# Altium integrated library TI Data Converters Digital to Analog Converter.IntLib: 1533 symbols (part 82 of 99)
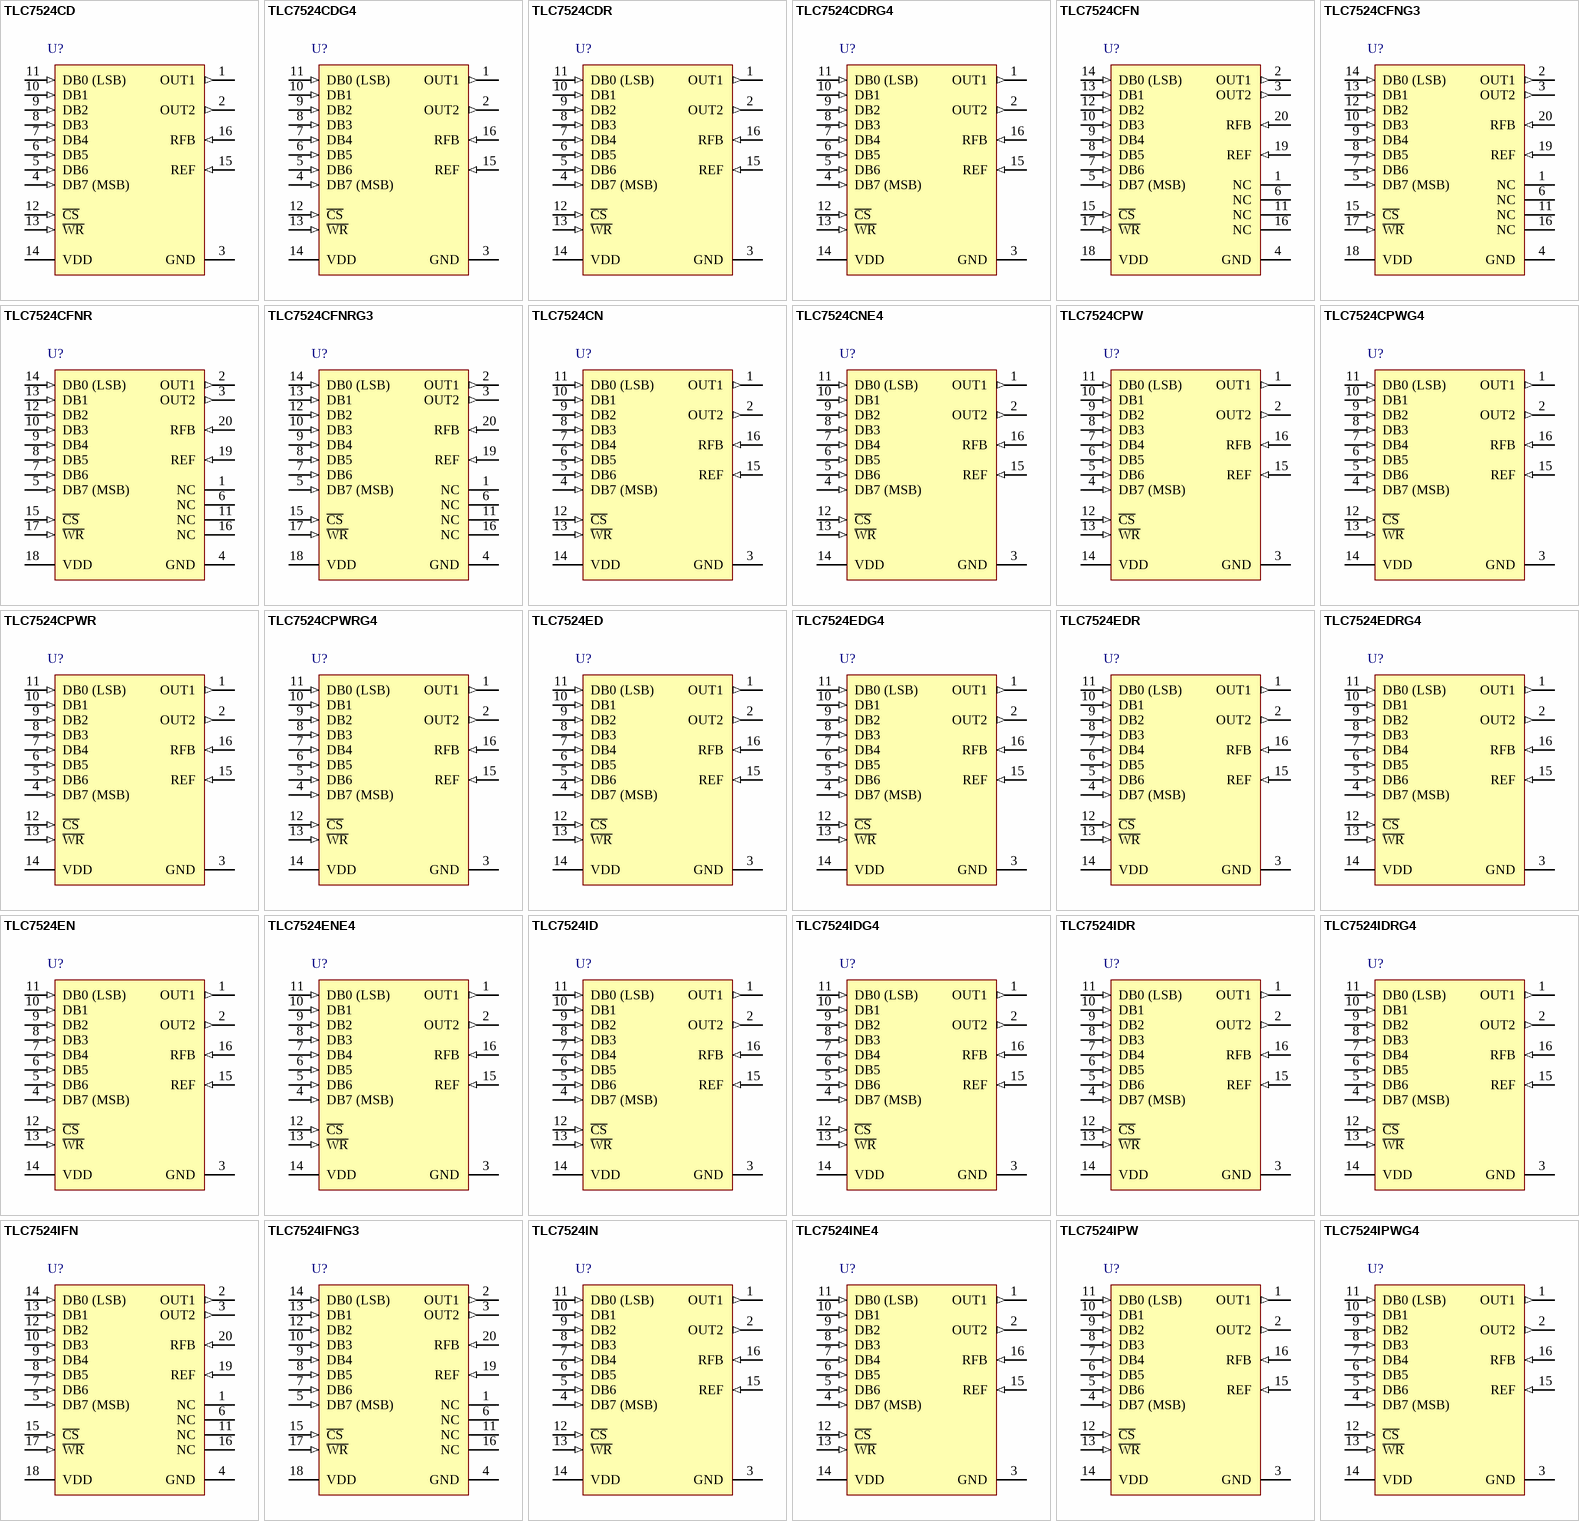
[diagram p154: symbols TLC7524CD to TLC7524IPWG4]

## TLC7524IPWG4
designator U?
8-Bit, 0.1 us MDAC, Parallel Input, Fast Control Signalling for DSP, Easy Micro Interface, -25 to 85 degC, 16-pin SOP (PW16), Green (RoHS & no Sb/Br); Manufacturer: Texas Instruments; PartNumber: TLC7524IPWG4; DAC Channels: 1; DNL(Max)(+/-LSB): 0.5; Resolution(Bits): 8; Settling Time(us): 0.1; SubFamily: Precision DAC (=<10MSPS); DatasheetVersion: SLAS061D; PackageVersion: 4040064-4/G, 02/2011; PackageReference: PW16; PackageDescription: 16-Pin Plastic Small Outline, Body 5 x 4.4 mm, Pitch 0.65 mm; Supplier 1: Digi-Key; Supplier Part Number 1: TLC7524IPWG4-ND; Supplier 2: Mouser; Supplier Part Number 2: 595-TLC7524IPWG4; Eco-Plan: Green (RoHS & no Sb/Br); INL(Max)(+/-LSB): 0.5; Interface: Parallel; Mounting Technology: Surface Mount; Code_JEDEC: MO-153; ComponentLink1Description: Manufacturer URL; ComponentLink1URL: http://www.ti.com/; ComponentLink2Description: Datasheet; ComponentLink2URL: http://www.ti.com/general/docs/lit/getliterature.tsp?genericPartNumber=TLC7524&fileType=pdf; ComponentLink3Description: Package Specification; ComponentLink3URL: http://www.ti.com/lit/ml/mpds361/mpds361.pdf
footprint TI-PW16_N (SOP, 16-Leads, Body 5x4.4mm, Pitch 0.65mm, IPC Medium Density)
footprint TI-PW16_L (SOP, 16-Leads, Body 5x4.4mm, Pitch 0.65mm, IPC High Density)
footprint TI-PW16_M (SOP, 16-Leads, Body 5x4.4mm, Pitch 0.65mm, IPC Low Density)
pins: 1 OUT1 (out), 2 OUT2 (out), 3 GND (power), 4 DB7 (MSB) (in), 5 DB6 (in), 6 DB5 (in), 7 DB4 (in), 8 DB3 (in), 9 DB2 (in), 10 DB1 (in), 11 DB0 (LSB) (in), 12 ~{CS} (in), 13 ~{WR} (in), 14 VDD (power), 15 REF (in), 16 RFB (in)

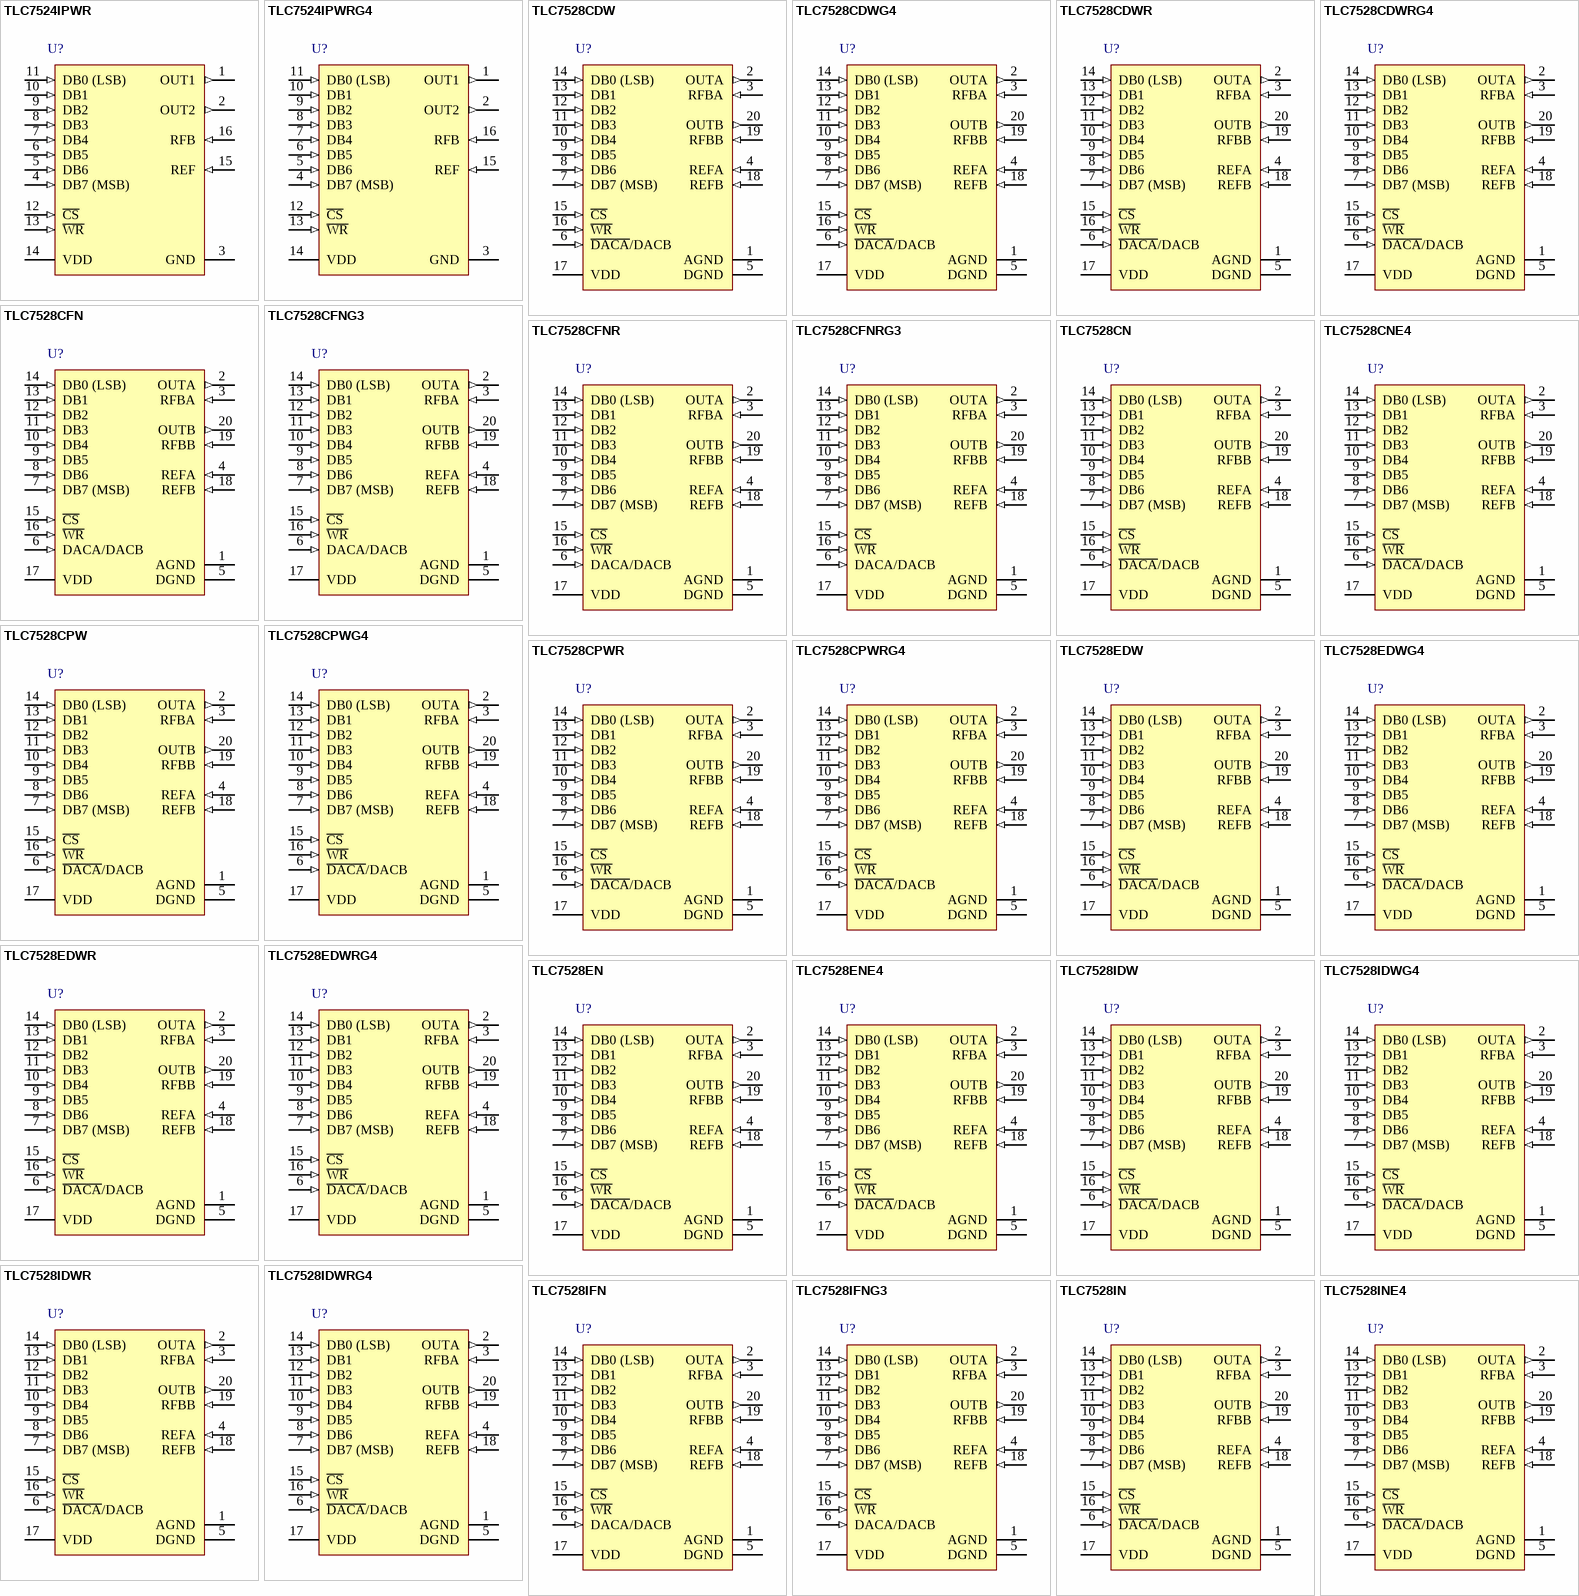
[diagram p61: symbols TLC7524IPWR to TLC7528INE4]

## TLC7524IPWR
designator U?
8-Bit, 0.1 us MDAC, Parallel Input, Fast Control Signalling for DSP, Easy Micro Interface, -25 to 85 degC, 16-pin SOP (PW16), Green (RoHS & no Sb/Br); Manufacturer: Texas Instruments; PartNumber: TLC7524IPWR; DAC Channels: 1; DNL(Max)(+/-LSB): 0.5; Resolution(Bits): 8; Settling Time(us): 0.1; SubFamily: Precision DAC (=<10MSPS); DatasheetVersion: SLAS061D; PackageVersion: 4040064-4/G, 02/2011; PackageReference: PW16; PackageDescription: 16-Pin Plastic Small Outline, Body 5 x 4.4 mm, Pitch 0.65 mm; Supplier 1: Digi-Key; Supplier Part Number 1: TLC7524IPWR-ND; Supplier 2: Mouser; Supplier Part Number 2: 595-TLC7524IPWR; Eco-Plan: Green (RoHS & no Sb/Br); INL(Max)(+/-LSB): 0.5; Interface: Parallel; Mounting Technology: Surface Mount; Code_JEDEC: MO-153; ComponentLink1Description: Manufacturer URL; ComponentLink1URL: http://www.ti.com/; ComponentLink2Description: Datasheet; ComponentLink2URL: http://www.ti.com/general/docs/lit/getliterature.tsp?genericPartNumber=TLC7524&fileType=pdf; ComponentLink3Description: Package Specification; ComponentLink3URL: http://www.ti.com/lit/ml/mpds361/mpds361.pdf
footprint TI-PW16_N (SOP, 16-Leads, Body 5x4.4mm, Pitch 0.65mm, IPC Medium Density)
footprint TI-PW16_L (SOP, 16-Leads, Body 5x4.4mm, Pitch 0.65mm, IPC High Density)
footprint TI-PW16_M (SOP, 16-Leads, Body 5x4.4mm, Pitch 0.65mm, IPC Low Density)
pins: 1 OUT1 (out), 2 OUT2 (out), 3 GND (power), 4 DB7 (MSB) (in), 5 DB6 (in), 6 DB5 (in), 7 DB4 (in), 8 DB3 (in), 9 DB2 (in), 10 DB1 (in), 11 DB0 (LSB) (in), 12 ~{CS} (in), 13 ~{WR} (in), 14 VDD (power), 15 REF (in), 16 RFB (in)

## TLC7524IPWRG4
designator U?
8-Bit, 0.1 us MDAC, Parallel Input, Fast Control Signalling for DSP, Easy Micro Interface, -25 to 85 degC, 16-pin SOP (PW16), Green (RoHS & no Sb/Br); Manufacturer: Texas Instruments; PartNumber: TLC7524IPWRG4; DAC Channels: 1; DNL(Max)(+/-LSB): 0.5; Resolution(Bits): 8; Settling Time(us): 0.1; SubFamily: Precision DAC (=<10MSPS); DatasheetVersion: SLAS061D; PackageVersion: 4040064-4/G, 02/2011; PackageReference: PW16; PackageDescription: 16-Pin Plastic Small Outline, Body 5 x 4.4 mm, Pitch 0.65 mm; Supplier 1: Digi-Key; Supplier Part Number 1: TLC7524IPWRG4-ND; Supplier 2: Mouser; Supplier Part Number 2: 595-TLC7524IPWRG4; Eco-Plan: Green (RoHS & no Sb/Br); INL(Max)(+/-LSB): 0.5; Interface: Parallel; Mounting Technology: Surface Mount; Code_JEDEC: MO-153; ComponentLink1Description: Manufacturer URL; ComponentLink1URL: http://www.ti.com/; ComponentLink2Description: Datasheet; ComponentLink2URL: http://www.ti.com/general/docs/lit/getliterature.tsp?genericPartNumber=TLC7524&fileType=pdf; ComponentLink3Description: Package Specification; ComponentLink3URL: http://www.ti.com/lit/ml/mpds361/mpds361.pdf
footprint TI-PW16_N (SOP, 16-Leads, Body 5x4.4mm, Pitch 0.65mm, IPC Medium Density)
footprint TI-PW16_L (SOP, 16-Leads, Body 5x4.4mm, Pitch 0.65mm, IPC High Density)
footprint TI-PW16_M (SOP, 16-Leads, Body 5x4.4mm, Pitch 0.65mm, IPC Low Density)
pins: 1 OUT1 (out), 2 OUT2 (out), 3 GND (power), 4 DB7 (MSB) (in), 5 DB6 (in), 6 DB5 (in), 7 DB4 (in), 8 DB3 (in), 9 DB2 (in), 10 DB1 (in), 11 DB0 (LSB) (in), 12 ~{CS} (in), 13 ~{WR} (in), 14 VDD (power), 15 REF (in), 16 RFB (in)

## TLC7528CDW
designator U?
8-Bit, 0.1 us Dual MDAC, Parallel Input, Fast Control Signalling for DSP, Easy Micro Interface, 0 to 70 degC, 20-pin SOIC (DW20), Green (RoHS & no Sb/Br); Manufacturer: Texas Instruments; PartNumber: TLC7528CDW; DAC Channels: 2; DNL(Max)(+/-LSB): 0.5; Resolution(Bits): 8; Settling Time(us): 0.1; SubFamily: Precision DAC (=<10MSPS); DatasheetVersion: SLAS062E; PackageVersion: 4040000-4/G, 01/2011; PackageReference: DW20; PackageDescription: 20-Pin Plastic Small Outline, Body 12.8 x 7.5 mm, Pitch 1.27 mm; Supplier 1: Digi-Key; Supplier Part Number 1: 296-1340-5-ND; Supplier 2: Newark; Supplier Part Number 2: 08F9152; Supplier 3: Mouser; Supplier Part Number 3: 595-TLC7528CDW; Eco-Plan: Green (RoHS & no Sb/Br); INL(Max)(+/-LSB): 0.5; Interface: Parallel; Mounting Technology: Surface Mount; Code_JEDEC: MO-013; ComponentLink1Description: Manufacturer URL; ComponentLink1URL: http://www.ti.com/; ComponentLink2Description: Datasheet; ComponentLink2URL: http://www.ti.com/general/docs/lit/getliterature.tsp?genericPartNumber=TLC7528&fileType=pdf; ComponentLink3Description: Package Specification; ComponentLink3URL: http://www.ti.com/lit/ml/mpds173a/mpds173a.pdf
footprint TI-DW20_N (SOIC, 20-Leads, Body 12.8x7.5mm, Pitch 1.27mm, IPC Medium Density)
footprint TI-DW20_L (SOIC, 20-Leads, Body 12.8x7.5mm, Pitch 1.27mm, IPC High Density)
footprint TI-DW20_M (SOIC, 20-Leads, Body 12.8x7.5mm, Pitch 1.27mm, IPC Low Density)
pins: 1 AGND (power), 2 OUTA (out), 3 RFBA (in), 4 REFA (in), 5 DGND (power), 6 ~{DACA}/DACB (in), 7 DB7 (MSB) (in), 8 DB6 (in), 9 DB5 (in), 10 DB4 (in), 11 DB3 (in), 12 DB2 (in), 13 DB1 (in), 14 DB0 (LSB) (in), 15 ~{CS} (in), 16 ~{WR} (in), 17 VDD (power), 18 REFB (in), 19 RFBB (in), 20 OUTB (out)

## TLC7528CDWG4
designator U?
8-Bit, 0.1 us Dual MDAC, Parallel Input, Fast Control Signalling for DSP, Easy Micro Interface, 0 to 70 degC, 20-pin SOIC (DW20), Green (RoHS & no Sb/Br); Manufacturer: Texas Instruments; PartNumber: TLC7528CDWG4; DAC Channels: 2; DNL(Max)(+/-LSB): 0.5; Resolution(Bits): 8; Settling Time(us): 0.1; SubFamily: Precision DAC (=<10MSPS); DatasheetVersion: SLAS062E; PackageVersion: 4040000-4/G, 01/2011; PackageReference: DW20; PackageDescription: 20-Pin Plastic Small Outline, Body 12.8 x 7.5 mm, Pitch 1.27 mm; Supplier 1: Digi-Key; Supplier Part Number 1: TLC7528CDWG4-ND; Supplier 2: Mouser; Supplier Part Number 2: 595-TLC7528CDWG4; Eco-Plan: Green (RoHS & no Sb/Br); INL(Max)(+/-LSB): 0.5; Interface: Parallel; Mounting Technology: Surface Mount; Code_JEDEC: MO-013; ComponentLink1Description: Manufacturer URL; ComponentLink1URL: http://www.ti.com/; ComponentLink2Description: Datasheet; ComponentLink2URL: http://www.ti.com/general/docs/lit/getliterature.tsp?genericPartNumber=TLC7528&fileType=pdf; ComponentLink3Description: Package Specification; ComponentLink3URL: http://www.ti.com/lit/ml/mpds173a/mpds173a.pdf
footprint TI-DW20_N (SOIC, 20-Leads, Body 12.8x7.5mm, Pitch 1.27mm, IPC Medium Density)
footprint TI-DW20_L (SOIC, 20-Leads, Body 12.8x7.5mm, Pitch 1.27mm, IPC High Density)
footprint TI-DW20_M (SOIC, 20-Leads, Body 12.8x7.5mm, Pitch 1.27mm, IPC Low Density)
pins: 1 AGND (power), 2 OUTA (out), 3 RFBA (in), 4 REFA (in), 5 DGND (power), 6 ~{DACA}/DACB (in), 7 DB7 (MSB) (in), 8 DB6 (in), 9 DB5 (in), 10 DB4 (in), 11 DB3 (in), 12 DB2 (in), 13 DB1 (in), 14 DB0 (LSB) (in), 15 ~{CS} (in), 16 ~{WR} (in), 17 VDD (power), 18 REFB (in), 19 RFBB (in), 20 OUTB (out)

## TLC7528CDWR
designator U?
8-Bit, 0.1 us Dual MDAC, Parallel Input, Fast Control Signalling for DSP, Easy Micro Interface, 0 to 70 degC, 20-pin SOIC (DW20), Green (RoHS & no Sb/Br); Manufacturer: Texas Instruments; PartNumber: TLC7528CDWR; DAC Channels: 2; DNL(Max)(+/-LSB): 0.5; Resolution(Bits): 8; Settling Time(us): 0.1; SubFamily: Precision DAC (=<10MSPS); DatasheetVersion: SLAS062E; PackageVersion: 4040000-4/G, 01/2011; PackageReference: DW20; PackageDescription: 20-Pin Plastic Small Outline, Body 12.8 x 7.5 mm, Pitch 1.27 mm; Supplier 1: Digi-Key; Supplier Part Number 1: 296-1340-2-ND; Supplier 2: Digi-Key; Supplier Part Number 2: 296-1340-1-ND; Supplier 3: Digi-Key; Supplier Part Number 3: 296-1340-6-ND; Supplier 4: Newark; Supplier Part Number 4: 76C7505; Supplier 5: Mouser; Supplier Part Number 5: 595-TLC7528CDWR; Eco-Plan: Green (RoHS & no Sb/Br); INL(Max)(+/-LSB): 0.5; Interface: Parallel; Mounting Technology: Surface Mount; Code_JEDEC: MO-013; ComponentLink1Description: Manufacturer URL; ComponentLink1URL: http://www.ti.com/; ComponentLink2Description: Datasheet; ComponentLink2URL: http://www.ti.com/general/docs/lit/getliterature.tsp?genericPartNumber=TLC7528&fileType=pdf; ComponentLink3Description: Package Specification; ComponentLink3URL: http://www.ti.com/lit/ml/mpds173a/mpds173a.pdf
footprint TI-DW20_N (SOIC, 20-Leads, Body 12.8x7.5mm, Pitch 1.27mm, IPC Medium Density)
footprint TI-DW20_L (SOIC, 20-Leads, Body 12.8x7.5mm, Pitch 1.27mm, IPC High Density)
footprint TI-DW20_M (SOIC, 20-Leads, Body 12.8x7.5mm, Pitch 1.27mm, IPC Low Density)
pins: 1 AGND (power), 2 OUTA (out), 3 RFBA (in), 4 REFA (in), 5 DGND (power), 6 ~{DACA}/DACB (in), 7 DB7 (MSB) (in), 8 DB6 (in), 9 DB5 (in), 10 DB4 (in), 11 DB3 (in), 12 DB2 (in), 13 DB1 (in), 14 DB0 (LSB) (in), 15 ~{CS} (in), 16 ~{WR} (in), 17 VDD (power), 18 REFB (in), 19 RFBB (in), 20 OUTB (out)

## TLC7528CDWRG4
designator U?
8-Bit, 0.1 us Dual MDAC, Parallel Input, Fast Control Signalling for DSP, Easy Micro Interface, 0 to 70 degC, 20-pin SOIC (DW20), Green (RoHS & no Sb/Br); Manufacturer: Texas Instruments; PartNumber: TLC7528CDWRG4; DAC Channels: 2; DNL(Max)(+/-LSB): 0.5; Resolution(Bits): 8; Settling Time(us): 0.1; SubFamily: Precision DAC (=<10MSPS); DatasheetVersion: SLAS062E; PackageVersion: 4040000-4/G, 01/2011; PackageReference: DW20; PackageDescription: 20-Pin Plastic Small Outline, Body 12.8 x 7.5 mm, Pitch 1.27 mm; Supplier 1: Digi-Key; Supplier Part Number 1: TLC7528CDWRG4-ND; Supplier 2: Mouser; Supplier Part Number 2: 595-TLC7528CDWRG4; Eco-Plan: Green (RoHS & no Sb/Br); INL(Max)(+/-LSB): 0.5; Interface: Parallel; Mounting Technology: Surface Mount; Code_JEDEC: MO-013; ComponentLink1Description: Manufacturer URL; ComponentLink1URL: http://www.ti.com/; ComponentLink2Description: Datasheet; ComponentLink2URL: http://www.ti.com/general/docs/lit/getliterature.tsp?genericPartNumber=TLC7528&fileType=pdf; ComponentLink3Description: Package Specification; ComponentLink3URL: http://www.ti.com/lit/ml/mpds173a/mpds173a.pdf
footprint TI-DW20_N (SOIC, 20-Leads, Body 12.8x7.5mm, Pitch 1.27mm, IPC Medium Density)
footprint TI-DW20_L (SOIC, 20-Leads, Body 12.8x7.5mm, Pitch 1.27mm, IPC High Density)
footprint TI-DW20_M (SOIC, 20-Leads, Body 12.8x7.5mm, Pitch 1.27mm, IPC Low Density)
pins: 1 AGND (power), 2 OUTA (out), 3 RFBA (in), 4 REFA (in), 5 DGND (power), 6 ~{DACA}/DACB (in), 7 DB7 (MSB) (in), 8 DB6 (in), 9 DB5 (in), 10 DB4 (in), 11 DB3 (in), 12 DB2 (in), 13 DB1 (in), 14 DB0 (LSB) (in), 15 ~{CS} (in), 16 ~{WR} (in), 17 VDD (power), 18 REFB (in), 19 RFBB (in), 20 OUTB (out)

## TLC7528CFN
designator U?
8-Bit, 0.1 us Dual MDAC, Parallel Input, Fast Control Signalling for DSP, Easy Micro Interface, 0 to 70 degC, 20-pin PLCC (FN20), Green (RoHS & no Sb/Br); Manufacturer: Texas Instruments; PartNumber: TLC7528CFN; DAC Channels: 2; DNL(Max)(+/-LSB): 0.5; Resolution(Bits): 8; Settling Time(us): 0.1; SubFamily: Precision DAC (=<10MSPS); DatasheetVersion: SLAS062E; PackageVersion: 4040005/B, 03/1995; PackageReference: FN20; PackageDescription: 20-Pin Plastic Chip Carrier, Body 8.965 x 8.965 mm, Pitch 1.27 mm; Supplier 1: Digi-Key; Supplier Part Number 1: 296-3024-5-ND; Supplier 2: Mouser; Supplier Part Number 2: 595-TLC7528CFN; Eco-Plan: Green (RoHS & no Sb/Br); INL(Max)(+/-LSB): 0.5; Interface: Parallel; Mounting Technology: Surface Mount; Code_JEDEC: MS-018; ComponentLink1Description: Manufacturer URL; ComponentLink1URL: http://www.ti.com/; ComponentLink2Description: Datasheet; ComponentLink2URL: http://www.ti.com/general/docs/lit/getliterature.tsp?genericPartNumber=TLC7528&fileType=pdf; ComponentLink3Description: Package Specification; ComponentLink3URL: http://www.ti.com/litv/pdf/mplc004a
footprint TI-FN20_N (PLCC, 20-Leads, Body 8.965x8.965mm, Pitch 1.27mm, IPC Medium Density)
footprint TI-FN20_L (PLCC, 20-Leads, Body 8.965x8.965mm, Pitch 1.27mm, IPC High Density)
footprint TI-FN20_M (PLCC, 20-Leads, Body 8.965x8.965mm, Pitch 1.27mm, IPC Low Density)
pins: 1 AGND (power), 2 OUTA (out), 3 RFBA (in), 4 REFA (in), 5 DGND (power), 6 DACA/DACB (in), 7 DB7 (MSB) (in), 8 DB6 (in), 9 DB5 (in), 10 DB4 (in), 11 DB3 (in), 12 DB2 (in), 13 DB1 (in), 14 DB0 (LSB) (in), 15 ~{CS} (in), 16 ~{WR} (in), 17 VDD (power), 18 REFB (in), 19 RFBB (in), 20 OUTB (out)

## TLC7528CFNG3
designator U?
8-Bit, 0.1 us Dual MDAC, Parallel Input, Fast Control Signalling for DSP, Easy Micro Interface, 0 to 70 degC, 20-pin PLCC (FN20), Green (RoHS & no Sb/Br); Manufacturer: Texas Instruments; PartNumber: TLC7528CFNG3; DAC Channels: 2; DNL(Max)(+/-LSB): 0.5; Resolution(Bits): 8; Settling Time(us): 0.1; SubFamily: Precision DAC (=<10MSPS); DatasheetVersion: SLAS062E; PackageVersion: 4040005/B, 03/1995; PackageReference: FN20; PackageDescription: 20-Pin Plastic Chip Carrier, Body 8.965 x 8.965 mm, Pitch 1.27 mm; Supplier 1: Digi-Key; Supplier Part Number 1: TLC7528CFNG3-ND; Supplier 2: Mouser; Supplier Part Number 2: 595-TLC7528CFNG3; Eco-Plan: Green (RoHS & no Sb/Br); INL(Max)(+/-LSB): 0.5; Interface: Parallel; Mounting Technology: Surface Mount; Code_JEDEC: MS-018; ComponentLink1Description: Manufacturer URL; ComponentLink1URL: http://www.ti.com/; ComponentLink2Description: Datasheet; ComponentLink2URL: http://www.ti.com/general/docs/lit/getliterature.tsp?genericPartNumber=TLC7528&fileType=pdf; ComponentLink3Description: Package Specification; ComponentLink3URL: http://www.ti.com/litv/pdf/mplc004a
footprint TI-FN20_N (PLCC, 20-Leads, Body 8.965x8.965mm, Pitch 1.27mm, IPC Medium Density)
footprint TI-FN20_L (PLCC, 20-Leads, Body 8.965x8.965mm, Pitch 1.27mm, IPC High Density)
footprint TI-FN20_M (PLCC, 20-Leads, Body 8.965x8.965mm, Pitch 1.27mm, IPC Low Density)
pins: 1 AGND (power), 2 OUTA (out), 3 RFBA (in), 4 REFA (in), 5 DGND (power), 6 DACA/DACB (in), 7 DB7 (MSB) (in), 8 DB6 (in), 9 DB5 (in), 10 DB4 (in), 11 DB3 (in), 12 DB2 (in), 13 DB1 (in), 14 DB0 (LSB) (in), 15 ~{CS} (in), 16 ~{WR} (in), 17 VDD (power), 18 REFB (in), 19 RFBB (in), 20 OUTB (out)

## TLC7528CFNR
designator U?
8-Bit, 0.1 us Dual MDAC, Parallel Input, Fast Control Signalling for DSP, Easy Micro Interface, 0 to 70 degC, 20-pin PLCC (FN20), Green (RoHS & no Sb/Br); Manufacturer: Texas Instruments; PartNumber: TLC7528CFNR; DAC Channels: 2; DNL(Max)(+/-LSB): 0.5; Resolution(Bits): 8; Settling Time(us): 0.1; SubFamily: Precision DAC (=<10MSPS); DatasheetVersion: SLAS062E; PackageVersion: 4040005/B, 03/1995; PackageReference: FN20; PackageDescription: 20-Pin Plastic Chip Carrier, Body 8.965 x 8.965 mm, Pitch 1.27 mm; Supplier 1: Digi-Key; Supplier Part Number 1: TLC7528CFNR-ND; Supplier 2: Mouser; Supplier Part Number 2: 595-TLC7528CFNR; Eco-Plan: Green (RoHS & no Sb/Br); INL(Max)(+/-LSB): 0.5; Interface: Parallel; Mounting Technology: Surface Mount; Code_JEDEC: MS-018; ComponentLink1Description: Manufacturer URL; ComponentLink1URL: http://www.ti.com/; ComponentLink2Description: Datasheet; ComponentLink2URL: http://www.ti.com/general/docs/lit/getliterature.tsp?genericPartNumber=TLC7528&fileType=pdf; ComponentLink3Description: Package Specification; ComponentLink3URL: http://www.ti.com/litv/pdf/mplc004a
footprint TI-FN20_N (PLCC, 20-Leads, Body 8.965x8.965mm, Pitch 1.27mm, IPC Medium Density)
footprint TI-FN20_L (PLCC, 20-Leads, Body 8.965x8.965mm, Pitch 1.27mm, IPC High Density)
footprint TI-FN20_M (PLCC, 20-Leads, Body 8.965x8.965mm, Pitch 1.27mm, IPC Low Density)
pins: 1 AGND (power), 2 OUTA (out), 3 RFBA (in), 4 REFA (in), 5 DGND (power), 6 DACA/DACB (in), 7 DB7 (MSB) (in), 8 DB6 (in), 9 DB5 (in), 10 DB4 (in), 11 DB3 (in), 12 DB2 (in), 13 DB1 (in), 14 DB0 (LSB) (in), 15 ~{CS} (in), 16 ~{WR} (in), 17 VDD (power), 18 REFB (in), 19 RFBB (in), 20 OUTB (out)

## TLC7528CFNRG3
designator U?
8-Bit, 0.1 us Dual MDAC, Parallel Input, Fast Control Signalling for DSP, Easy Micro Interface, 0 to 70 degC, 20-pin PLCC (FN20), Green (RoHS & no Sb/Br); Manufacturer: Texas Instruments; PartNumber: TLC7528CFNRG3; DAC Channels: 2; DNL(Max)(+/-LSB): 0.5; Resolution(Bits): 8; Settling Time(us): 0.1; SubFamily: Precision DAC (=<10MSPS); DatasheetVersion: SLAS062E; PackageVersion: 4040005/B, 03/1995; PackageReference: FN20; PackageDescription: 20-Pin Plastic Chip Carrier, Body 8.965 x 8.965 mm, Pitch 1.27 mm; Supplier 1: Digi-Key; Supplier Part Number 1: TLC7528CFNRG3-ND; Supplier 2: Mouser; Supplier Part Number 2: 595-TLC7528CFNRG3; Eco-Plan: Green (RoHS & no Sb/Br); INL(Max)(+/-LSB): 0.5; Interface: Parallel; Mounting Technology: Surface Mount; Code_JEDEC: MS-018; ComponentLink1Description: Manufacturer URL; ComponentLink1URL: http://www.ti.com/; ComponentLink2Description: Datasheet; ComponentLink2URL: http://www.ti.com/general/docs/lit/getliterature.tsp?genericPartNumber=TLC7528&fileType=pdf; ComponentLink3Description: Package Specification; ComponentLink3URL: http://www.ti.com/litv/pdf/mplc004a
footprint TI-FN20_N (PLCC, 20-Leads, Body 8.965x8.965mm, Pitch 1.27mm, IPC Medium Density)
footprint TI-FN20_L (PLCC, 20-Leads, Body 8.965x8.965mm, Pitch 1.27mm, IPC High Density)
footprint TI-FN20_M (PLCC, 20-Leads, Body 8.965x8.965mm, Pitch 1.27mm, IPC Low Density)
pins: 1 AGND (power), 2 OUTA (out), 3 RFBA (in), 4 REFA (in), 5 DGND (power), 6 DACA/DACB (in), 7 DB7 (MSB) (in), 8 DB6 (in), 9 DB5 (in), 10 DB4 (in), 11 DB3 (in), 12 DB2 (in), 13 DB1 (in), 14 DB0 (LSB) (in), 15 ~{CS} (in), 16 ~{WR} (in), 17 VDD (power), 18 REFB (in), 19 RFBB (in), 20 OUTB (out)

## TLC7528CN
designator U?
8-Bit, 0.1 us Dual MDAC, Parallel Input, Fast Control Signalling for DSP, Easy Micro Interface, 0 to 70 degC, 20-pin DIP (N20), Pb-Free (RoHS); Manufacturer: Texas Instruments; PartNumber: TLC7528CN; DAC Channels: 2; DNL(Max)(+/-LSB): 0.5; Resolution(Bits): 8; Settling Time(us): 0.1; SubFamily: Precision DAC (=<10MSPS); DatasheetVersion: SLAS062E; PackageVersion: 4040049/E, 12/2002; PackageReference: N20; PackageDescription: 20-Pin Plastic In-Line, Body 25.40 x 6.35 mm, Pitch 2.54 mm; Supplier 1: Digi-Key; Supplier Part Number 1: 296-1871-5-ND; Supplier 2: Farnell; Supplier Part Number 2: 8454647; Supplier 3: Newark; Supplier Part Number 3: 36K3648; Supplier 4: Mouser; Supplier Part Number 4: 595-TLC7528CN; Eco-Plan: Pb-Free (RoHS); INL(Max)(+/-LSB): 0.5; Interface: Parallel; Mounting Technology: Through Hole; Code_JEDEC: MS-001; ComponentLink1Description: Manufacturer URL; ComponentLink1URL: http://www.ti.com/; ComponentLink2Description: Datasheet; ComponentLink2URL: http://www.ti.com/general/docs/lit/getliterature.tsp?genericPartNumber=TLC7528&fileType=pdf; ComponentLink3Description: Package Specification; ComponentLink3URL: http://www.ti.com/lit/ml/mpdi002c/mpdi002c.pdf
footprint TI-N20 (DIP, 20-Leads, Body 25.4x6.35 mm, Pitch 2.54 mm)
pins: 1 AGND (power), 2 OUTA (out), 3 RFBA (in), 4 REFA (in), 5 DGND (power), 6 ~{DACA}/DACB (in), 7 DB7 (MSB) (in), 8 DB6 (in), 9 DB5 (in), 10 DB4 (in), 11 DB3 (in), 12 DB2 (in), 13 DB1 (in), 14 DB0 (LSB) (in), 15 ~{CS} (in), 16 ~{WR} (in), 17 VDD (power), 18 REFB (in), 19 RFBB (in), 20 OUTB (out)

## TLC7528CNE4
designator U?
8-Bit, 0.1 us Dual MDAC, Parallel Input, Fast Control Signalling for DSP, Easy Micro Interface, 0 to 70 degC, 20-pin DIP (N20), Pb-Free (RoHS); Manufacturer: Texas Instruments; PartNumber: TLC7528CNE4; DAC Channels: 2; DNL(Max)(+/-LSB): 0.5; Resolution(Bits): 8; Settling Time(us): 0.1; SubFamily: Precision DAC (=<10MSPS); DatasheetVersion: SLAS062E; PackageVersion: 4040049/E, 12/2002; PackageReference: N20; PackageDescription: 20-Pin Plastic In-Line, Body 25.40 x 6.35 mm, Pitch 2.54 mm; Supplier 1: Digi-Key; Supplier Part Number 1: TLC7528CNE4-ND; Supplier 2: Newark; Supplier Part Number 2: 24K5352; Supplier 3: Mouser; Supplier Part Number 3: 595-TLC7528CNE4; Eco-Plan: Pb-Free (RoHS); INL(Max)(+/-LSB): 0.5; Interface: Parallel; Mounting Technology: Through Hole; Code_JEDEC: MS-001; ComponentLink1Description: Manufacturer URL; ComponentLink1URL: http://www.ti.com/; ComponentLink2Description: Datasheet; ComponentLink2URL: http://www.ti.com/general/docs/lit/getliterature.tsp?genericPartNumber=TLC7528&fileType=pdf; ComponentLink3Description: Package Specification; ComponentLink3URL: http://www.ti.com/lit/ml/mpdi002c/mpdi002c.pdf
footprint TI-N20 (DIP, 20-Leads, Body 25.4x6.35 mm, Pitch 2.54 mm)
pins: 1 AGND (power), 2 OUTA (out), 3 RFBA (in), 4 REFA (in), 5 DGND (power), 6 ~{DACA}/DACB (in), 7 DB7 (MSB) (in), 8 DB6 (in), 9 DB5 (in), 10 DB4 (in), 11 DB3 (in), 12 DB2 (in), 13 DB1 (in), 14 DB0 (LSB) (in), 15 ~{CS} (in), 16 ~{WR} (in), 17 VDD (power), 18 REFB (in), 19 RFBB (in), 20 OUTB (out)

## TLC7528CPW
designator U?
8-Bit, 0.1 us Dual MDAC, Parallel Input, Fast Control Signalling for DSP, Easy Micro Interface, 0 to 70 degC, 20-pin SOP (PW20), Green (RoHS & no Sb/Br); Manufacturer: Texas Instruments; PartNumber: TLC7528CPW; DAC Channels: 2; DNL(Max)(+/-LSB): 0.5; Resolution(Bits): 8; Settling Time(us): 0.1; SubFamily: Precision DAC (=<10MSPS); DatasheetVersion: SLAS062E; PackageVersion: 4040064-5/G, 02/2011; PackageReference: PW20; PackageDescription: 20-Pin Plastic Small Outline, Body 6.5 x 4.4 mm, Pitch 0.65 mm; Supplier 1: Digi-Key; Supplier Part Number 1: 296-34383-5-ND; Supplier 2: Mouser; Supplier Part Number 2: 595-TLC7528CPW; Eco-Plan: Green (RoHS & no Sb/Br); INL(Max)(+/-LSB): 0.5; Interface: Parallel; Mounting Technology: Surface Mount; Code_JEDEC: MO-153; ComponentLink1Description: Manufacturer URL; ComponentLink1URL: http://www.ti.com/; ComponentLink2Description: Datasheet; ComponentLink2URL: http://www.ti.com/general/docs/lit/getliterature.tsp?genericPartNumber=TLC7528&fileType=pdf; ComponentLink3Description: Package Specification; ComponentLink3URL: http://www.ti.com.cn/cn/lit/ml/mpds362/mpds362.pdf
footprint TI-PW20_N (SOP, 20-Leads, Body 6.5x4.4mm, Pitch 0.65mm, IPC Medium Density)
footprint TI-PW20_L (SOP, 20-Leads, Body 6.5x4.4mm, Pitch 0.65mm, IPC High Density)
footprint TI-PW20_M (SOP, 20-Leads, Body 6.5x4.4mm, Pitch 0.65mm, IPC Low Density)
pins: 1 AGND (power), 2 OUTA (out), 3 RFBA (in), 4 REFA (in), 5 DGND (power), 6 ~{DACA}/DACB (in), 7 DB7 (MSB) (in), 8 DB6 (in), 9 DB5 (in), 10 DB4 (in), 11 DB3 (in), 12 DB2 (in), 13 DB1 (in), 14 DB0 (LSB) (in), 15 ~{CS} (in), 16 ~{WR} (in), 17 VDD (power), 18 REFB (in), 19 RFBB (in), 20 OUTB (out)

## TLC7528CPWG4
designator U?
8-Bit, 0.1 us Dual MDAC, Parallel Input, Fast Control Signalling for DSP, Easy Micro Interface, 0 to 70 degC, 20-pin SOP (PW20), Green (RoHS & no Sb/Br); Manufacturer: Texas Instruments; PartNumber: TLC7528CPWG4; DAC Channels: 2; DNL(Max)(+/-LSB): 0.5; Resolution(Bits): 8; Settling Time(us): 0.1; SubFamily: Precision DAC (=<10MSPS); DatasheetVersion: SLAS062E; PackageVersion: 4040064-5/G, 02/2011; PackageReference: PW20; PackageDescription: 20-Pin Plastic Small Outline, Body 6.5 x 4.4 mm, Pitch 0.65 mm; Supplier 1: Digi-Key; Supplier Part Number 1: TLC7528CPWG4-ND; Supplier 2: Mouser; Supplier Part Number 2: 595-TLC7528CPWG4; Eco-Plan: Green (RoHS & no Sb/Br); INL(Max)(+/-LSB): 0.5; Interface: Parallel; Mounting Technology: Surface Mount; Code_JEDEC: MO-153; ComponentLink1Description: Manufacturer URL; ComponentLink1URL: http://www.ti.com/; ComponentLink2Description: Datasheet; ComponentLink2URL: http://www.ti.com/general/docs/lit/getliterature.tsp?genericPartNumber=TLC7528&fileType=pdf; ComponentLink3Description: Package Specification; ComponentLink3URL: http://www.ti.com.cn/cn/lit/ml/mpds362/mpds362.pdf
footprint TI-PW20_N (SOP, 20-Leads, Body 6.5x4.4mm, Pitch 0.65mm, IPC Medium Density)
footprint TI-PW20_L (SOP, 20-Leads, Body 6.5x4.4mm, Pitch 0.65mm, IPC High Density)
footprint TI-PW20_M (SOP, 20-Leads, Body 6.5x4.4mm, Pitch 0.65mm, IPC Low Density)
pins: 1 AGND (power), 2 OUTA (out), 3 RFBA (in), 4 REFA (in), 5 DGND (power), 6 ~{DACA}/DACB (in), 7 DB7 (MSB) (in), 8 DB6 (in), 9 DB5 (in), 10 DB4 (in), 11 DB3 (in), 12 DB2 (in), 13 DB1 (in), 14 DB0 (LSB) (in), 15 ~{CS} (in), 16 ~{WR} (in), 17 VDD (power), 18 REFB (in), 19 RFBB (in), 20 OUTB (out)

## TLC7528CPWR
designator U?
8-Bit, 0.1 us Dual MDAC, Parallel Input, Fast Control Signalling for DSP, Easy Micro Interface, 0 to 70 degC, 20-pin SOP (PW20), Green (RoHS & no Sb/Br); Manufacturer: Texas Instruments; PartNumber: TLC7528CPWR; DAC Channels: 2; DNL(Max)(+/-LSB): 0.5; Resolution(Bits): 8; Settling Time(us): 0.1; SubFamily: Precision DAC (=<10MSPS); DatasheetVersion: SLAS062E; PackageVersion: 4040064-5/G, 02/2011; PackageReference: PW20; PackageDescription: 20-Pin Plastic Small Outline, Body 6.5 x 4.4 mm, Pitch 0.65 mm; Supplier 1: Digi-Key; Supplier Part Number 1: TLC7528CPWR-ND; Supplier 2: Mouser; Supplier Part Number 2: 595-TLC7528CPWR; Eco-Plan: Green (RoHS & no Sb/Br); INL(Max)(+/-LSB): 0.5; Interface: Parallel; Mounting Technology: Surface Mount; Code_JEDEC: MO-153; ComponentLink1Description: Manufacturer URL; ComponentLink1URL: http://www.ti.com/; ComponentLink2Description: Datasheet; ComponentLink2URL: http://www.ti.com/general/docs/lit/getliterature.tsp?genericPartNumber=TLC7528&fileType=pdf; ComponentLink3Description: Package Specification; ComponentLink3URL: http://www.ti.com.cn/cn/lit/ml/mpds362/mpds362.pdf
footprint TI-PW20_N (SOP, 20-Leads, Body 6.5x4.4mm, Pitch 0.65mm, IPC Medium Density)
footprint TI-PW20_L (SOP, 20-Leads, Body 6.5x4.4mm, Pitch 0.65mm, IPC High Density)
footprint TI-PW20_M (SOP, 20-Leads, Body 6.5x4.4mm, Pitch 0.65mm, IPC Low Density)
pins: 1 AGND (power), 2 OUTA (out), 3 RFBA (in), 4 REFA (in), 5 DGND (power), 6 ~{DACA}/DACB (in), 7 DB7 (MSB) (in), 8 DB6 (in), 9 DB5 (in), 10 DB4 (in), 11 DB3 (in), 12 DB2 (in), 13 DB1 (in), 14 DB0 (LSB) (in), 15 ~{CS} (in), 16 ~{WR} (in), 17 VDD (power), 18 REFB (in), 19 RFBB (in), 20 OUTB (out)

## TLC7528CPWRG4
designator U?
8-Bit, 0.1 us Dual MDAC, Parallel Input, Fast Control Signalling for DSP, Easy Micro Interface, 0 to 70 degC, 20-pin SOP (PW20), Green (RoHS & no Sb/Br); Manufacturer: Texas Instruments; PartNumber: TLC7528CPWRG4; DAC Channels: 2; DNL(Max)(+/-LSB): 0.5; Resolution(Bits): 8; Settling Time(us): 0.1; SubFamily: Precision DAC (=<10MSPS); DatasheetVersion: SLAS062E; PackageVersion: 4040064-5/G, 02/2011; PackageReference: PW20; PackageDescription: 20-Pin Plastic Small Outline, Body 6.5 x 4.4 mm, Pitch 0.65 mm; Supplier 1: Digi-Key; Supplier Part Number 1: TLC7528CPWRG4-ND; Supplier 2: Mouser; Supplier Part Number 2: 595-TLC7528CPWRG4; Eco-Plan: Green (RoHS & no Sb/Br); INL(Max)(+/-LSB): 0.5; Interface: Parallel; Mounting Technology: Surface Mount; Code_JEDEC: MO-153; ComponentLink1Description: Manufacturer URL; ComponentLink1URL: http://www.ti.com/; ComponentLink2Description: Datasheet; ComponentLink2URL: http://www.ti.com/general/docs/lit/getliterature.tsp?genericPartNumber=TLC7528&fileType=pdf; ComponentLink3Description: Package Specification; ComponentLink3URL: http://www.ti.com.cn/cn/lit/ml/mpds362/mpds362.pdf
footprint TI-PW20_N (SOP, 20-Leads, Body 6.5x4.4mm, Pitch 0.65mm, IPC Medium Density)
footprint TI-PW20_L (SOP, 20-Leads, Body 6.5x4.4mm, Pitch 0.65mm, IPC High Density)
footprint TI-PW20_M (SOP, 20-Leads, Body 6.5x4.4mm, Pitch 0.65mm, IPC Low Density)
pins: 1 AGND (power), 2 OUTA (out), 3 RFBA (in), 4 REFA (in), 5 DGND (power), 6 ~{DACA}/DACB (in), 7 DB7 (MSB) (in), 8 DB6 (in), 9 DB5 (in), 10 DB4 (in), 11 DB3 (in), 12 DB2 (in), 13 DB1 (in), 14 DB0 (LSB) (in), 15 ~{CS} (in), 16 ~{WR} (in), 17 VDD (power), 18 REFB (in), 19 RFBB (in), 20 OUTB (out)

## TLC7528EDW
designator U?
8-Bit, 0.1 us Dual MDAC, Parallel Input, Fast Control Signalling for DSP, Easy Micro Interface, -40 to 85 degC, 20-pin SOIC (DW20), Green (RoHS & no Sb/Br); Manufacturer: Texas Instruments; PartNumber: TLC7528EDW; DAC Channels: 2; DNL(Max)(+/-LSB): 0.5; Resolution(Bits): 8; Settling Time(us): 0.1; SubFamily: Precision DAC (=<10MSPS); DatasheetVersion: SLAS062E; PackageVersion: 4040000-4/G, 01/2011; PackageReference: DW20; PackageDescription: 20-Pin Plastic Small Outline, Body 12.8 x 7.5 mm, Pitch 1.27 mm; Supplier 1: Digi-Key; Supplier Part Number 1: 296-3025-5-ND; Supplier 2: Newark; Supplier Part Number 2: 73C6364; Supplier 3: Mouser; Supplier Part Number 3: 595-TLC7528EDW; Eco-Plan: Green (RoHS & no Sb/Br); INL(Max)(+/-LSB): 0.5; Interface: Parallel; Mounting Technology: Surface Mount; Code_JEDEC: MO-013; ComponentLink1Description: Manufacturer URL; ComponentLink1URL: http://www.ti.com/; ComponentLink2Description: Datasheet; ComponentLink2URL: http://www.ti.com/general/docs/lit/getliterature.tsp?genericPartNumber=TLC7528&fileType=pdf; ComponentLink3Description: Package Specification; ComponentLink3URL: http://www.ti.com/lit/ml/mpds173a/mpds173a.pdf
footprint TI-DW20_N (SOIC, 20-Leads, Body 12.8x7.5mm, Pitch 1.27mm, IPC Medium Density)
footprint TI-DW20_L (SOIC, 20-Leads, Body 12.8x7.5mm, Pitch 1.27mm, IPC High Density)
footprint TI-DW20_M (SOIC, 20-Leads, Body 12.8x7.5mm, Pitch 1.27mm, IPC Low Density)
pins: 1 AGND (power), 2 OUTA (out), 3 RFBA (in), 4 REFA (in), 5 DGND (power), 6 ~{DACA}/DACB (in), 7 DB7 (MSB) (in), 8 DB6 (in), 9 DB5 (in), 10 DB4 (in), 11 DB3 (in), 12 DB2 (in), 13 DB1 (in), 14 DB0 (LSB) (in), 15 ~{CS} (in), 16 ~{WR} (in), 17 VDD (power), 18 REFB (in), 19 RFBB (in), 20 OUTB (out)

## TLC7528EDWG4
designator U?
8-Bit, 0.1 us Dual MDAC, Parallel Input, Fast Control Signalling for DSP, Easy Micro Interface, -40 to 85 degC, 20-pin SOIC (DW20), Green (RoHS & no Sb/Br); Manufacturer: Texas Instruments; PartNumber: TLC7528EDWG4; DAC Channels: 2; DNL(Max)(+/-LSB): 0.5; Resolution(Bits): 8; Settling Time(us): 0.1; SubFamily: Precision DAC (=<10MSPS); DatasheetVersion: SLAS062E; PackageVersion: 4040000-4/G, 01/2011; PackageReference: DW20; PackageDescription: 20-Pin Plastic Small Outline, Body 12.8 x 7.5 mm, Pitch 1.27 mm; Supplier 1: Digi-Key; Supplier Part Number 1: 296-27976-5-ND; Supplier 2: Mouser; Supplier Part Number 2: 595-TLC7528EDWG4; Eco-Plan: Green (RoHS & no Sb/Br); INL(Max)(+/-LSB): 0.5; Interface: Parallel; Mounting Technology: Surface Mount; Code_JEDEC: MO-013; ComponentLink1Description: Manufacturer URL; ComponentLink1URL: http://www.ti.com/; ComponentLink2Description: Datasheet; ComponentLink2URL: http://www.ti.com/general/docs/lit/getliterature.tsp?genericPartNumber=TLC7528&fileType=pdf; ComponentLink3Description: Package Specification; ComponentLink3URL: http://www.ti.com/lit/ml/mpds173a/mpds173a.pdf
footprint TI-DW20_N (SOIC, 20-Leads, Body 12.8x7.5mm, Pitch 1.27mm, IPC Medium Density)
footprint TI-DW20_L (SOIC, 20-Leads, Body 12.8x7.5mm, Pitch 1.27mm, IPC High Density)
footprint TI-DW20_M (SOIC, 20-Leads, Body 12.8x7.5mm, Pitch 1.27mm, IPC Low Density)
pins: 1 AGND (power), 2 OUTA (out), 3 RFBA (in), 4 REFA (in), 5 DGND (power), 6 ~{DACA}/DACB (in), 7 DB7 (MSB) (in), 8 DB6 (in), 9 DB5 (in), 10 DB4 (in), 11 DB3 (in), 12 DB2 (in), 13 DB1 (in), 14 DB0 (LSB) (in), 15 ~{CS} (in), 16 ~{WR} (in), 17 VDD (power), 18 REFB (in), 19 RFBB (in), 20 OUTB (out)

## TLC7528EDWR
designator U?
8-Bit, 0.1 us Dual MDAC, Parallel Input, Fast Control Signalling for DSP, Easy Micro Interface, -40 to 85 degC, 20-pin SOIC (DW20), Green (RoHS & no Sb/Br); Manufacturer: Texas Instruments; PartNumber: TLC7528EDWR; DAC Channels: 2; DNL(Max)(+/-LSB): 0.5; Resolution(Bits): 8; Settling Time(us): 0.1; SubFamily: Precision DAC (=<10MSPS); DatasheetVersion: SLAS062E; PackageVersion: 4040000-4/G, 01/2011; PackageReference: DW20; PackageDescription: 20-Pin Plastic Small Outline, Body 12.8 x 7.5 mm, Pitch 1.27 mm; Supplier 1: Digi-Key; Supplier Part Number 1: TLC7528EDWR-ND; Supplier 2: Newark; Supplier Part Number 2: 76C7509; Supplier 3: Mouser; Supplier Part Number 3: 595-TLC7528EDWR; Eco-Plan: Green (RoHS & no Sb/Br); INL(Max)(+/-LSB): 0.5; Interface: Parallel; Mounting Technology: Surface Mount; Code_JEDEC: MO-013; ComponentLink1Description: Manufacturer URL; ComponentLink1URL: http://www.ti.com/; ComponentLink2Description: Datasheet; ComponentLink2URL: http://www.ti.com/general/docs/lit/getliterature.tsp?genericPartNumber=TLC7528&fileType=pdf; ComponentLink3Description: Package Specification; ComponentLink3URL: http://www.ti.com/lit/ml/mpds173a/mpds173a.pdf
footprint TI-DW20_N (SOIC, 20-Leads, Body 12.8x7.5mm, Pitch 1.27mm, IPC Medium Density)
footprint TI-DW20_L (SOIC, 20-Leads, Body 12.8x7.5mm, Pitch 1.27mm, IPC High Density)
footprint TI-DW20_M (SOIC, 20-Leads, Body 12.8x7.5mm, Pitch 1.27mm, IPC Low Density)
pins: 1 AGND (power), 2 OUTA (out), 3 RFBA (in), 4 REFA (in), 5 DGND (power), 6 ~{DACA}/DACB (in), 7 DB7 (MSB) (in), 8 DB6 (in), 9 DB5 (in), 10 DB4 (in), 11 DB3 (in), 12 DB2 (in), 13 DB1 (in), 14 DB0 (LSB) (in), 15 ~{CS} (in), 16 ~{WR} (in), 17 VDD (power), 18 REFB (in), 19 RFBB (in), 20 OUTB (out)

## TLC7528EDWRG4
designator U?
8-Bit, 0.1 us Dual MDAC, Parallel Input, Fast Control Signalling for DSP, Easy Micro Interface, -40 to 85 degC, 20-pin SOIC (DW20), Green (RoHS & no Sb/Br); Manufacturer: Texas Instruments; PartNumber: TLC7528EDWRG4; DAC Channels: 2; DNL(Max)(+/-LSB): 0.5; Resolution(Bits): 8; Settling Time(us): 0.1; SubFamily: Precision DAC (=<10MSPS); DatasheetVersion: SLAS062E; PackageVersion: 4040000-4/G, 01/2011; PackageReference: DW20; PackageDescription: 20-Pin Plastic Small Outline, Body 12.8 x 7.5 mm, Pitch 1.27 mm; Supplier 1: Digi-Key; Supplier Part Number 1: TLC7528EDWRG4-ND; Supplier 2: Mouser; Supplier Part Number 2: 595-TLC7528EDWRG4; Eco-Plan: Green (RoHS & no Sb/Br); INL(Max)(+/-LSB): 0.5; Interface: Parallel; Mounting Technology: Surface Mount; Code_JEDEC: MO-013; ComponentLink1Description: Manufacturer URL; ComponentLink1URL: http://www.ti.com/; ComponentLink2Description: Datasheet; ComponentLink2URL: http://www.ti.com/general/docs/lit/getliterature.tsp?genericPartNumber=TLC7528&fileType=pdf; ComponentLink3Description: Package Specification; ComponentLink3URL: http://www.ti.com/lit/ml/mpds173a/mpds173a.pdf
footprint TI-DW20_N (SOIC, 20-Leads, Body 12.8x7.5mm, Pitch 1.27mm, IPC Medium Density)
footprint TI-DW20_L (SOIC, 20-Leads, Body 12.8x7.5mm, Pitch 1.27mm, IPC High Density)
footprint TI-DW20_M (SOIC, 20-Leads, Body 12.8x7.5mm, Pitch 1.27mm, IPC Low Density)
pins: 1 AGND (power), 2 OUTA (out), 3 RFBA (in), 4 REFA (in), 5 DGND (power), 6 ~{DACA}/DACB (in), 7 DB7 (MSB) (in), 8 DB6 (in), 9 DB5 (in), 10 DB4 (in), 11 DB3 (in), 12 DB2 (in), 13 DB1 (in), 14 DB0 (LSB) (in), 15 ~{CS} (in), 16 ~{WR} (in), 17 VDD (power), 18 REFB (in), 19 RFBB (in), 20 OUTB (out)

## TLC7528EN
designator U?
8-Bit, 0.1 us Dual MDAC, Parallel Input, Fast Control Signalling for DSP, Easy Micro Interface, -40 to 85 degC, 20-pin DIP (N20), Pb-Free (RoHS); Manufacturer: Texas Instruments; PartNumber: TLC7528EN; DAC Channels: 2; DNL(Max)(+/-LSB): 0.5; Resolution(Bits): 8; Settling Time(us): 0.1; SubFamily: Precision DAC (=<10MSPS); DatasheetVersion: SLAS062E; PackageVersion: 4040049/E, 12/2002; PackageReference: N20; PackageDescription: 20-Pin Plastic In-Line, Body 25.40 x 6.35 mm, Pitch 2.54 mm; Supplier 1: Digi-Key; Supplier Part Number 1: 296-3026-5-ND; Supplier 2: Newark; Supplier Part Number 2: 08F9155; Supplier 3: Mouser; Supplier Part Number 3: 595-TLC7528EN; Eco-Plan: Pb-Free (RoHS); INL(Max)(+/-LSB): 0.5; Interface: Parallel; Mounting Technology: Through Hole; Code_JEDEC: MS-001; ComponentLink1Description: Manufacturer URL; ComponentLink1URL: http://www.ti.com/; ComponentLink2Description: Datasheet; ComponentLink2URL: http://www.ti.com/general/docs/lit/getliterature.tsp?genericPartNumber=TLC7528&fileType=pdf; ComponentLink3Description: Package Specification; ComponentLink3URL: http://www.ti.com/lit/ml/mpdi002c/mpdi002c.pdf
footprint TI-N20 (DIP, 20-Leads, Body 25.4x6.35 mm, Pitch 2.54 mm)
pins: 1 AGND (power), 2 OUTA (out), 3 RFBA (in), 4 REFA (in), 5 DGND (power), 6 ~{DACA}/DACB (in), 7 DB7 (MSB) (in), 8 DB6 (in), 9 DB5 (in), 10 DB4 (in), 11 DB3 (in), 12 DB2 (in), 13 DB1 (in), 14 DB0 (LSB) (in), 15 ~{CS} (in), 16 ~{WR} (in), 17 VDD (power), 18 REFB (in), 19 RFBB (in), 20 OUTB (out)

## TLC7528ENE4
designator U?
8-Bit, 0.1 us Dual MDAC, Parallel Input, Fast Control Signalling for DSP, Easy Micro Interface, -40 to 85 degC, 20-pin DIP (N20), Pb-Free (RoHS); Manufacturer: Texas Instruments; PartNumber: TLC7528ENE4; DAC Channels: 2; DNL(Max)(+/-LSB): 0.5; Resolution(Bits): 8; Settling Time(us): 0.1; SubFamily: Precision DAC (=<10MSPS); DatasheetVersion: SLAS062E; PackageVersion: 4040049/E, 12/2002; PackageReference: N20; PackageDescription: 20-Pin Plastic In-Line, Body 25.40 x 6.35 mm, Pitch 2.54 mm; Supplier 1: Digi-Key; Supplier Part Number 1: TLC7528ENE4-ND; Supplier 2: Mouser; Supplier Part Number 2: 595-TLC7528ENE4; Eco-Plan: Pb-Free (RoHS); INL(Max)(+/-LSB): 0.5; Interface: Parallel; Mounting Technology: Through Hole; Code_JEDEC: MS-001; ComponentLink1Description: Manufacturer URL; ComponentLink1URL: http://www.ti.com/; ComponentLink2Description: Datasheet; ComponentLink2URL: http://www.ti.com/general/docs/lit/getliterature.tsp?genericPartNumber=TLC7528&fileType=pdf; ComponentLink3Description: Package Specification; ComponentLink3URL: http://www.ti.com/lit/ml/mpdi002c/mpdi002c.pdf
footprint TI-N20 (DIP, 20-Leads, Body 25.4x6.35 mm, Pitch 2.54 mm)
pins: 1 AGND (power), 2 OUTA (out), 3 RFBA (in), 4 REFA (in), 5 DGND (power), 6 ~{DACA}/DACB (in), 7 DB7 (MSB) (in), 8 DB6 (in), 9 DB5 (in), 10 DB4 (in), 11 DB3 (in), 12 DB2 (in), 13 DB1 (in), 14 DB0 (LSB) (in), 15 ~{CS} (in), 16 ~{WR} (in), 17 VDD (power), 18 REFB (in), 19 RFBB (in), 20 OUTB (out)

## TLC7528IDW
designator U?
8-Bit, 0.1 us Dual MDAC, Parallel Input, Fast Control Signalling for DSP, Easy Micro Interface, -25 to 85 degC, 20-pin SOIC (DW20), Green (RoHS & no Sb/Br); Manufacturer: Texas Instruments; PartNumber: TLC7528IDW; DAC Channels: 2; DNL(Max)(+/-LSB): 0.5; Resolution(Bits): 8; Settling Time(us): 0.1; SubFamily: Precision DAC (=<10MSPS); DatasheetVersion: SLAS062E; PackageVersion: 4040000-4/G, 01/2011; PackageReference: DW20; PackageDescription: 20-Pin Plastic Small Outline, Body 12.8 x 7.5 mm, Pitch 1.27 mm; Supplier 1: Digi-Key; Supplier Part Number 1: 296-3027-5-ND; Supplier 2: Newark; Supplier Part Number 2: 67K1266; Supplier 3: Mouser; Supplier Part Number 3: 595-TLC7528IDW; Eco-Plan: Green (RoHS & no Sb/Br); INL(Max)(+/-LSB): 0.5; Interface: Parallel; Mounting Technology: Surface Mount; Code_JEDEC: MO-013; ComponentLink1Description: Manufacturer URL; ComponentLink1URL: http://www.ti.com/; ComponentLink2Description: Datasheet; ComponentLink2URL: http://www.ti.com/general/docs/lit/getliterature.tsp?genericPartNumber=TLC7528&fileType=pdf; ComponentLink3Description: Package Specification; ComponentLink3URL: http://www.ti.com/lit/ml/mpds173a/mpds173a.pdf
footprint TI-DW20_N (SOIC, 20-Leads, Body 12.8x7.5mm, Pitch 1.27mm, IPC Medium Density)
footprint TI-DW20_L (SOIC, 20-Leads, Body 12.8x7.5mm, Pitch 1.27mm, IPC High Density)
footprint TI-DW20_M (SOIC, 20-Leads, Body 12.8x7.5mm, Pitch 1.27mm, IPC Low Density)
pins: 1 AGND (power), 2 OUTA (out), 3 RFBA (in), 4 REFA (in), 5 DGND (power), 6 ~{DACA}/DACB (in), 7 DB7 (MSB) (in), 8 DB6 (in), 9 DB5 (in), 10 DB4 (in), 11 DB3 (in), 12 DB2 (in), 13 DB1 (in), 14 DB0 (LSB) (in), 15 ~{CS} (in), 16 ~{WR} (in), 17 VDD (power), 18 REFB (in), 19 RFBB (in), 20 OUTB (out)

## TLC7528IDWG4
designator U?
8-Bit, 0.1 us Dual MDAC, Parallel Input, Fast Control Signalling for DSP, Easy Micro Interface, -25 to 85 degC, 20-pin SOIC (DW20), Green (RoHS & no Sb/Br); Manufacturer: Texas Instruments; PartNumber: TLC7528IDWG4; DAC Channels: 2; DNL(Max)(+/-LSB): 0.5; Resolution(Bits): 8; Settling Time(us): 0.1; SubFamily: Precision DAC (=<10MSPS); DatasheetVersion: SLAS062E; PackageVersion: 4040000-4/G, 01/2011; PackageReference: DW20; PackageDescription: 20-Pin Plastic Small Outline, Body 12.8 x 7.5 mm, Pitch 1.27 mm; Supplier 1: Digi-Key; Supplier Part Number 1: TLC7528IDWG4-ND; Supplier 2: Newark; Supplier Part Number 2: 54K1032; Supplier 3: Mouser; Supplier Part Number 3: 595-TLC7528IDWG4; Eco-Plan: Green (RoHS & no Sb/Br); INL(Max)(+/-LSB): 0.5; Interface: Parallel; Mounting Technology: Surface Mount; Code_JEDEC: MO-013; ComponentLink1Description: Manufacturer URL; ComponentLink1URL: http://www.ti.com/; ComponentLink2Description: Datasheet; ComponentLink2URL: http://www.ti.com/general/docs/lit/getliterature.tsp?genericPartNumber=TLC7528&fileType=pdf; ComponentLink3Description: Package Specification; ComponentLink3URL: http://www.ti.com/lit/ml/mpds173a/mpds173a.pdf
footprint TI-DW20_N (SOIC, 20-Leads, Body 12.8x7.5mm, Pitch 1.27mm, IPC Medium Density)
footprint TI-DW20_L (SOIC, 20-Leads, Body 12.8x7.5mm, Pitch 1.27mm, IPC High Density)
footprint TI-DW20_M (SOIC, 20-Leads, Body 12.8x7.5mm, Pitch 1.27mm, IPC Low Density)
pins: 1 AGND (power), 2 OUTA (out), 3 RFBA (in), 4 REFA (in), 5 DGND (power), 6 ~{DACA}/DACB (in), 7 DB7 (MSB) (in), 8 DB6 (in), 9 DB5 (in), 10 DB4 (in), 11 DB3 (in), 12 DB2 (in), 13 DB1 (in), 14 DB0 (LSB) (in), 15 ~{CS} (in), 16 ~{WR} (in), 17 VDD (power), 18 REFB (in), 19 RFBB (in), 20 OUTB (out)

## TLC7528IDWR
designator U?
8-Bit, 0.1 us Dual MDAC, Parallel Input, Fast Control Signalling for DSP, Easy Micro Interface, -25 to 85 degC, 20-pin SOIC (DW20), Green (RoHS & no Sb/Br); Manufacturer: Texas Instruments; PartNumber: TLC7528IDWR; DAC Channels: 2; DNL(Max)(+/-LSB): 0.5; Resolution(Bits): 8; Settling Time(us): 0.1; SubFamily: Precision DAC (=<10MSPS); DatasheetVersion: SLAS062E; PackageVersion: 4040000-4/G, 01/2011; PackageReference: DW20; PackageDescription: 20-Pin Plastic Small Outline, Body 12.8 x 7.5 mm, Pitch 1.27 mm; Supplier 1: Digi-Key; Supplier Part Number 1: TLC7528IDWR-ND; Supplier 2: Mouser; Supplier Part Number 2: 595-TLC7528IDWR; Eco-Plan: Green (RoHS & no Sb/Br); INL(Max)(+/-LSB): 0.5; Interface: Parallel; Mounting Technology: Surface Mount; Code_JEDEC: MO-013; ComponentLink1Description: Manufacturer URL; ComponentLink1URL: http://www.ti.com/; ComponentLink2Description: Datasheet; ComponentLink2URL: http://www.ti.com/general/docs/lit/getliterature.tsp?genericPartNumber=TLC7528&fileType=pdf; ComponentLink3Description: Package Specification; ComponentLink3URL: http://www.ti.com/lit/ml/mpds173a/mpds173a.pdf
footprint TI-DW20_N (SOIC, 20-Leads, Body 12.8x7.5mm, Pitch 1.27mm, IPC Medium Density)
footprint TI-DW20_L (SOIC, 20-Leads, Body 12.8x7.5mm, Pitch 1.27mm, IPC High Density)
footprint TI-DW20_M (SOIC, 20-Leads, Body 12.8x7.5mm, Pitch 1.27mm, IPC Low Density)
pins: 1 AGND (power), 2 OUTA (out), 3 RFBA (in), 4 REFA (in), 5 DGND (power), 6 ~{DACA}/DACB (in), 7 DB7 (MSB) (in), 8 DB6 (in), 9 DB5 (in), 10 DB4 (in), 11 DB3 (in), 12 DB2 (in), 13 DB1 (in), 14 DB0 (LSB) (in), 15 ~{CS} (in), 16 ~{WR} (in), 17 VDD (power), 18 REFB (in), 19 RFBB (in), 20 OUTB (out)

## TLC7528IDWRG4
designator U?
8-Bit, 0.1 us Dual MDAC, Parallel Input, Fast Control Signalling for DSP, Easy Micro Interface, -25 to 85 degC, 20-pin SOIC (DW20), Green (RoHS & no Sb/Br); Manufacturer: Texas Instruments; PartNumber: TLC7528IDWRG4; DAC Channels: 2; DNL(Max)(+/-LSB): 0.5; Resolution(Bits): 8; Settling Time(us): 0.1; SubFamily: Precision DAC (=<10MSPS); DatasheetVersion: SLAS062E; PackageVersion: 4040000-4/G, 01/2011; PackageReference: DW20; PackageDescription: 20-Pin Plastic Small Outline, Body 12.8 x 7.5 mm, Pitch 1.27 mm; Supplier 1: Digi-Key; Supplier Part Number 1: TLC7528IDWRG4-ND; Supplier 2: Mouser; Supplier Part Number 2: 595-TLC7528IDWRG4; Eco-Plan: Green (RoHS & no Sb/Br); INL(Max)(+/-LSB): 0.5; Interface: Parallel; Mounting Technology: Surface Mount; Code_JEDEC: MO-013; ComponentLink1Description: Manufacturer URL; ComponentLink1URL: http://www.ti.com/; ComponentLink2Description: Datasheet; ComponentLink2URL: http://www.ti.com/general/docs/lit/getliterature.tsp?genericPartNumber=TLC7528&fileType=pdf; ComponentLink3Description: Package Specification; ComponentLink3URL: http://www.ti.com/lit/ml/mpds173a/mpds173a.pdf
footprint TI-DW20_N (SOIC, 20-Leads, Body 12.8x7.5mm, Pitch 1.27mm, IPC Medium Density)
footprint TI-DW20_L (SOIC, 20-Leads, Body 12.8x7.5mm, Pitch 1.27mm, IPC High Density)
footprint TI-DW20_M (SOIC, 20-Leads, Body 12.8x7.5mm, Pitch 1.27mm, IPC Low Density)
pins: 1 AGND (power), 2 OUTA (out), 3 RFBA (in), 4 REFA (in), 5 DGND (power), 6 ~{DACA}/DACB (in), 7 DB7 (MSB) (in), 8 DB6 (in), 9 DB5 (in), 10 DB4 (in), 11 DB3 (in), 12 DB2 (in), 13 DB1 (in), 14 DB0 (LSB) (in), 15 ~{CS} (in), 16 ~{WR} (in), 17 VDD (power), 18 REFB (in), 19 RFBB (in), 20 OUTB (out)

## TLC7528IFN
designator U?
8-Bit, 0.1 us Dual MDAC, Parallel Input, Fast Control Signalling for DSP, Easy Micro Interface, -25 to 85 degC, 20-pin PLCC (FN20), Green (RoHS & no Sb/Br); Manufacturer: Texas Instruments; PartNumber: TLC7528IFN; DAC Channels: 2; DNL(Max)(+/-LSB): 0.5; Resolution(Bits): 8; Settling Time(us): 0.1; SubFamily: Precision DAC (=<10MSPS); DatasheetVersion: SLAS062E; PackageVersion: 4040005/B, 03/1995; PackageReference: FN20; PackageDescription: 20-Pin Plastic Chip Carrier, Body 8.965 x 8.965 mm, Pitch 1.27 mm; Supplier 1: Digi-Key; Supplier Part Number 1: 296-3028-5-ND; Supplier 2: Mouser; Supplier Part Number 2: 595-TLC7528IFN; Eco-Plan: Green (RoHS & no Sb/Br); INL(Max)(+/-LSB): 0.5; Interface: Parallel; Mounting Technology: Surface Mount; Code_JEDEC: MS-018; ComponentLink1Description: Manufacturer URL; ComponentLink1URL: http://www.ti.com/; ComponentLink2Description: Datasheet; ComponentLink2URL: http://www.ti.com/general/docs/lit/getliterature.tsp?genericPartNumber=TLC7528&fileType=pdf; ComponentLink3Description: Package Specification; ComponentLink3URL: http://www.ti.com/litv/pdf/mplc004a
footprint TI-FN20_N (PLCC, 20-Leads, Body 8.965x8.965mm, Pitch 1.27mm, IPC Medium Density)
footprint TI-FN20_L (PLCC, 20-Leads, Body 8.965x8.965mm, Pitch 1.27mm, IPC High Density)
footprint TI-FN20_M (PLCC, 20-Leads, Body 8.965x8.965mm, Pitch 1.27mm, IPC Low Density)
pins: 1 AGND (power), 2 OUTA (out), 3 RFBA (in), 4 REFA (in), 5 DGND (power), 6 DACA/DACB (in), 7 DB7 (MSB) (in), 8 DB6 (in), 9 DB5 (in), 10 DB4 (in), 11 DB3 (in), 12 DB2 (in), 13 DB1 (in), 14 DB0 (LSB) (in), 15 ~{CS} (in), 16 ~{WR} (in), 17 VDD (power), 18 REFB (in), 19 RFBB (in), 20 OUTB (out)

## TLC7528IFNG3
designator U?
8-Bit, 0.1 us Dual MDAC, Parallel Input, Fast Control Signalling for DSP, Easy Micro Interface, -25 to 85 degC, 20-pin PLCC (FN20), Green (RoHS & no Sb/Br); Manufacturer: Texas Instruments; PartNumber: TLC7528IFNG3; DAC Channels: 2; DNL(Max)(+/-LSB): 0.5; Resolution(Bits): 8; Settling Time(us): 0.1; SubFamily: Precision DAC (=<10MSPS); DatasheetVersion: SLAS062E; PackageVersion: 4040005/B, 03/1995; PackageReference: FN20; PackageDescription: 20-Pin Plastic Chip Carrier, Body 8.965 x 8.965 mm, Pitch 1.27 mm; Supplier 1: Digi-Key; Supplier Part Number 1: TLC7528IFNG3-ND; Supplier 2: Mouser; Supplier Part Number 2: 595-TLC7528IFNG3; Eco-Plan: Green (RoHS & no Sb/Br); INL(Max)(+/-LSB): 0.5; Interface: Parallel; Mounting Technology: Surface Mount; Code_JEDEC: MS-018; ComponentLink1Description: Manufacturer URL; ComponentLink1URL: http://www.ti.com/; ComponentLink2Description: Datasheet; ComponentLink2URL: http://www.ti.com/general/docs/lit/getliterature.tsp?genericPartNumber=TLC7528&fileType=pdf; ComponentLink3Description: Package Specification; ComponentLink3URL: http://www.ti.com/litv/pdf/mplc004a
footprint TI-FN20_N (PLCC, 20-Leads, Body 8.965x8.965mm, Pitch 1.27mm, IPC Medium Density)
footprint TI-FN20_L (PLCC, 20-Leads, Body 8.965x8.965mm, Pitch 1.27mm, IPC High Density)
footprint TI-FN20_M (PLCC, 20-Leads, Body 8.965x8.965mm, Pitch 1.27mm, IPC Low Density)
pins: 1 AGND (power), 2 OUTA (out), 3 RFBA (in), 4 REFA (in), 5 DGND (power), 6 DACA/DACB (in), 7 DB7 (MSB) (in), 8 DB6 (in), 9 DB5 (in), 10 DB4 (in), 11 DB3 (in), 12 DB2 (in), 13 DB1 (in), 14 DB0 (LSB) (in), 15 ~{CS} (in), 16 ~{WR} (in), 17 VDD (power), 18 REFB (in), 19 RFBB (in), 20 OUTB (out)